# EAGLE library part M07X2 (library Connectors)
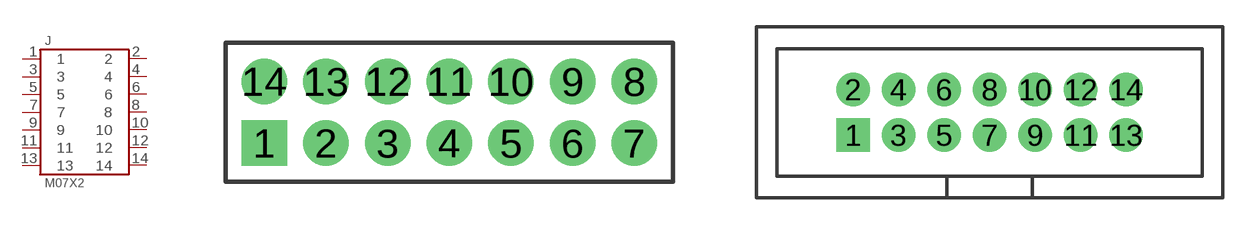
[diagram p6: symbol with the pads of M07X2-100MIL; footprints M07X2-100MIL, M07X2-100MIL_SHROUD-ALT]

Designator prefix J

## M07X2  [M07X2-100MIL]
1  1
2  2
3  3
4  4
5  5
6  6
7  7
8  8
9  9
10  10
11  11
12  12
13  13
14  14

## M07X2-100MIL_SHROUD  [M07X2-100MIL_SHROUD-ALT]
Pads as for M07X2-100MIL

## M07X2-100MIL_HORIZONTAL  [M07X2-100MIL_HORIZONTAL]
Pads as for M07X2-100MIL

## Footprint M07X2-100MIL (pad centres in mm)
drill 1.016 pad 1.88 square: 1 -7.62,-1.27
drill 1.016 pad 1.88: 2 -5.08,-1.27; 3 -2.54,-1.27; 4 0,-1.27; 5 2.54,-1.27; 6 5.08,-1.27; 7 7.62,-1.27; 8 7.62,1.27; 9 5.08,1.27; 10 2.54,1.27; 11 0,1.27; 12 -2.54,1.27; 13 -5.08,1.27; 14 -7.62,1.27

## Footprint M07X2-100MIL_SHROUD-ALT (pad centres in mm)
drill 1.016 pad 1.88 square: 1 -7.62,-1.27
drill 1.016 pad 1.88: 2 -7.62,1.27; 3 -5.08,-1.27; 4 -5.08,1.27; 5 -2.54,-1.27; 6 -2.54,1.27; 7 0,-1.27; 8 0,1.27; 9 2.54,-1.27; 10 2.54,1.27; 11 5.08,-1.27; 12 5.08,1.27; 13 7.62,-1.27; 14 7.62,1.27

## Footprint M07X2-100MIL_HORIZONTAL (pad centres in mm)
drill 1.016 pad 1.651 square: 1 -7.62,-1.27
drill 1.016 pad 1.651: 2 -7.62,1.27; 3 -5.08,-1.27; 4 -5.08,1.27; 5 -2.54,-1.27; 6 -2.54,1.27; 7 0,-1.27; 8 0,1.27; 9 2.54,-1.27; 10 2.54,1.27; 11 5.08,-1.27; 12 5.08,1.27; 13 7.62,-1.27; 14 7.62,1.27